# Altium footprint library PcbLib1.PcbLib: 3 footprints
Each footprint in its own frame and in the unit in brackets; x right, y up, seen from the top. Pads: shape width x height; smd on the part's side, far side on the other; paste and mask are expansions set on the pad; w line width, h text height; cw(c..) or ccw(c..) is an arc to the next point about the centre after c.
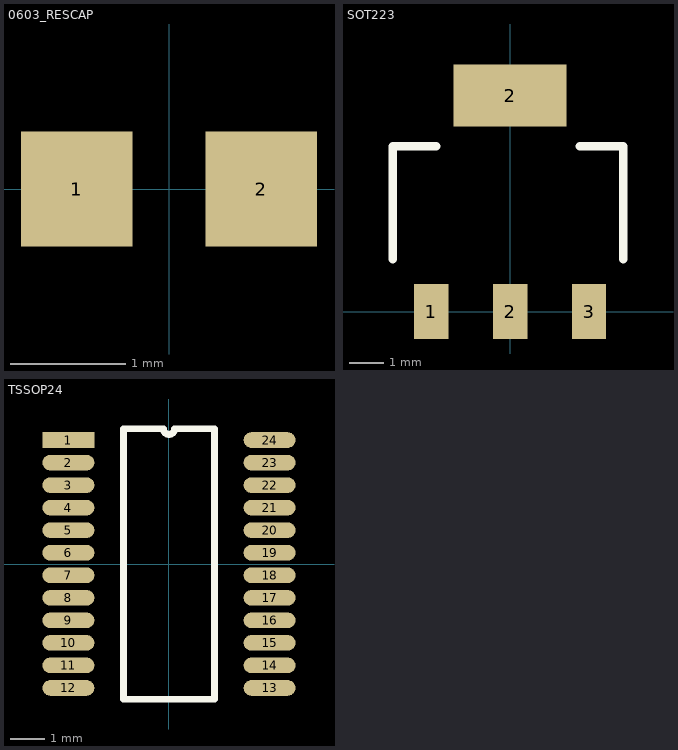
[diagram p0: the footprints below, top view; thin cyan lines are the x and y axes]

## 0603_RESCAP [mm]
pads (2):
  rect 0.965x1 smd: 1(-0.8,0) 2(0.8,0)
3D body "Resistor_0603_Text.step": height 0.47, standoff 0.01, extent -0.8,-0.4 0.8,0.4

## SOT223 [mm]
pads (4):
  rect 1x1.6 smd: 1(-2.3,0) 2(0,0) 3(2.3,0)
  rect 3.3x1.8 smd: 2(0,6.3)
Top Overlay:
  lines w0.254: -3.429,1.524 -3.429,4.826 -2.159,4.826 ; 2.032,4.826 3.302,4.826 3.302,1.524
3D body "SOT223.step": height 1.64, standoff -0.01, extent -3.358,-0.325 3.302,6.675

## TSSOP24 [mm]
pads (24):
  rect 1.5x0.45 smd: 1(-2.9,3.575)
  oval 1.5x0.45 smd: 2(-2.9,2.925) 3(-2.9,2.275) 4(-2.9,1.625) 5(-2.9,0.975) 6(-2.9,0.325) 7(-2.9,-0.325) 8(-2.9,-0.975) 9(-2.9,-1.625) 10(-2.9,-2.275) 11(-2.9,-2.925) 12(-2.9,-3.575) 13(2.9,-3.575) 14(2.9,-2.925) 15(2.9,-2.275) 16(2.9,-1.625) 17(2.9,-0.975) 18(2.9,-0.325) 19(2.9,0.325) 20(2.9,0.975) 21(2.9,1.625) 22(2.9,2.275) 23(2.9,2.925) 24(2.9,3.575)
Top Overlay:
  lines w0.2: -1.315,-3.9 -1.315,3.9 -0.162,3.9 ccw(c0,3.9) 0.162,3.9 1.315,3.9 1.315,-3.9 -1.315,-3.9
3D body "tssop_24.step": height 1.21, standoff -0.01, extent -3.181,-3.881 3.221,3.919